# Altium schematic symbol library Arduino_Headers.SchLib: 3 symbols
Pins are listed as number, name and electrical type; pins without a type are passive.

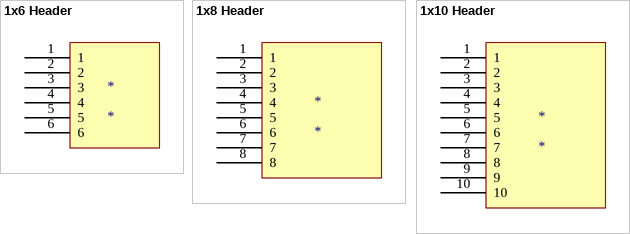
[diagram p0: symbols 1x6 Header to 1x10 Header]

## 1x6 Header
designator *
footprint 1x6 Header (Footprint not found)
pins: 1, 2, 3, 4, 5, 6

## 1x8 Header
designator *
footprint 1x8 Header
pins: 1, 2, 3, 4, 5, 6, 7, 8

## 1x10 Header
designator *
footprint 1x10 Header
pins: 1, 2, 3, 4, 5, 6, 7, 8, 9, 10